# Altium footprint library TC2XX&TC3XX_MotherBoard.PcbLib: 33 footprints (part 2 of 3)
Each footprint in its own frame and in the unit in brackets; x right, y up, seen from the top. Pads: shape width x height; smd on the part's side, far side on the other; paste and mask are expansions set on the pad; w line width, h text height; cw(c..) or ccw(c..) is an arc to the next point about the centre after c.
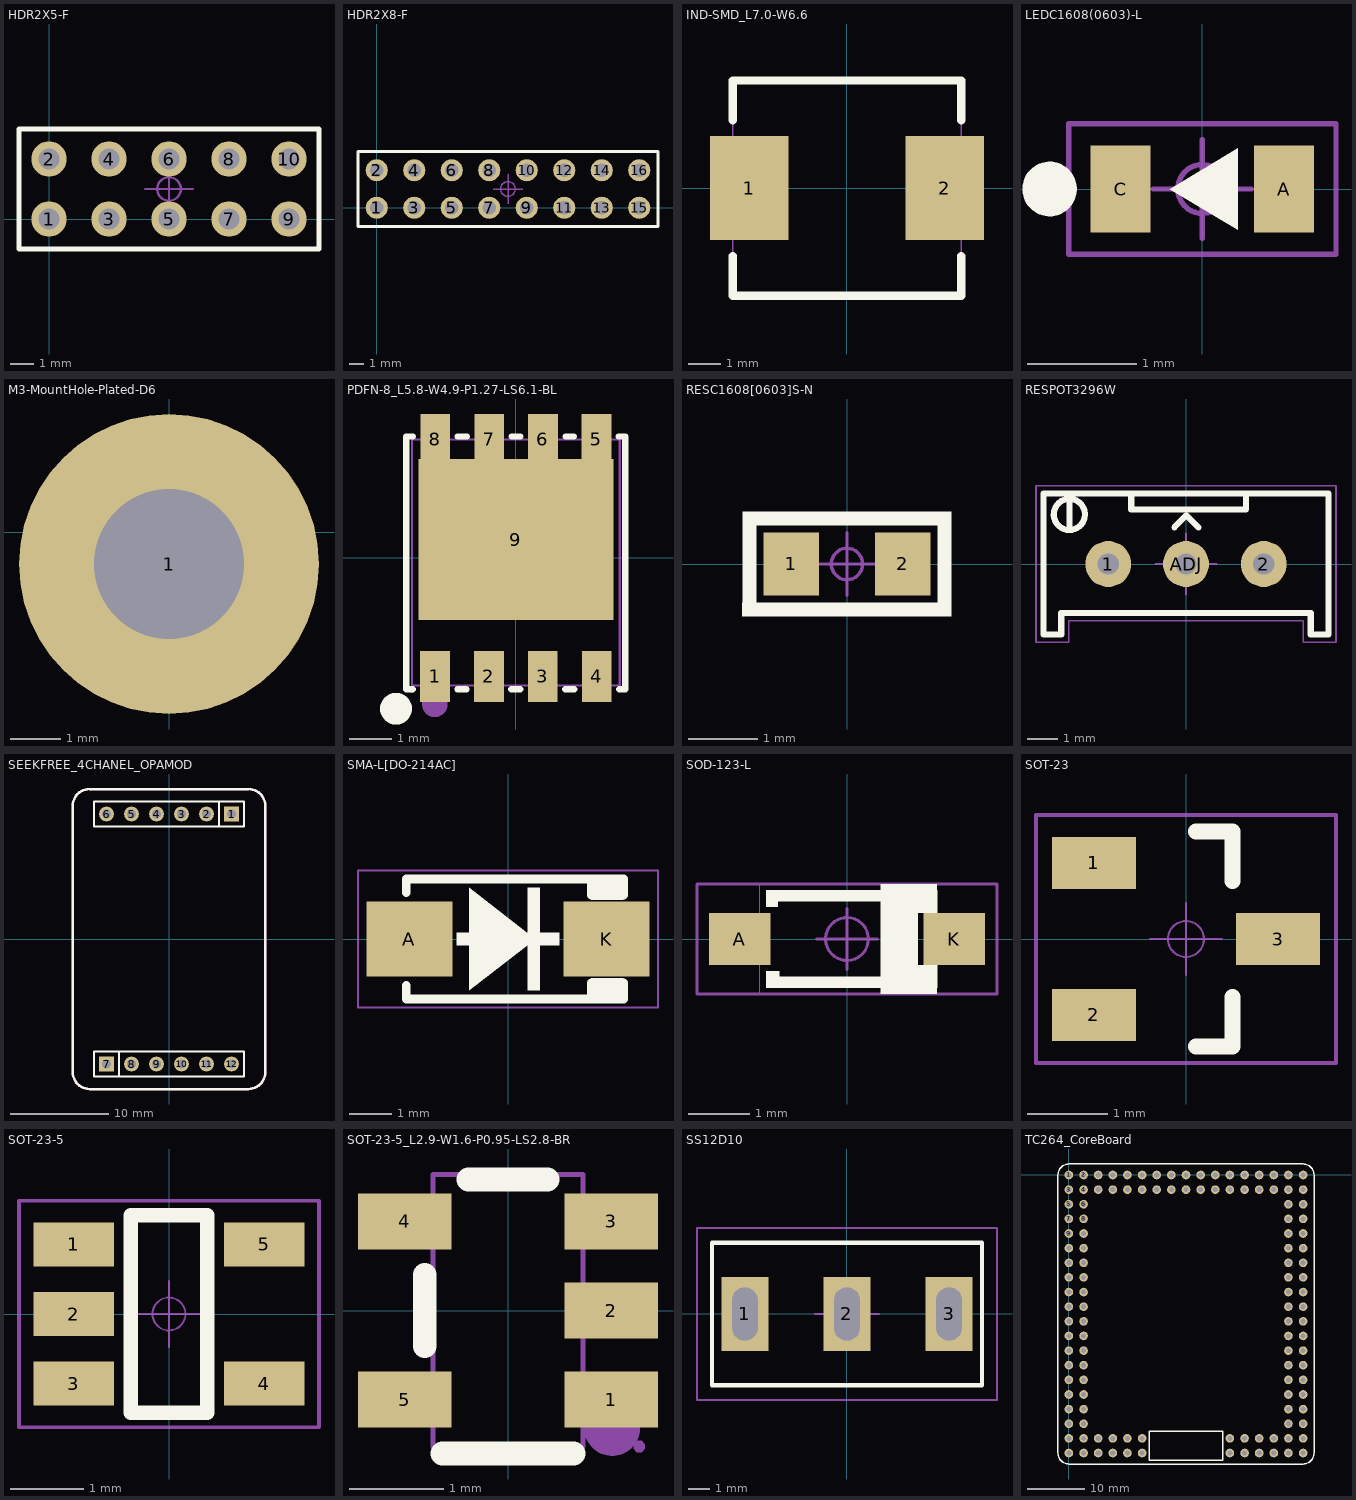
[diagram p1: the footprints below, top view; thin cyan lines are the x and y axes]

## HDR2X5-F [mm] "2x5pin, 2.54mm间距, 直插, 直排座"
pads (10):
  round 1.5 hole 0.9: 1(0,0) 2(0,2.54) 3(2.54,0) 4(2.54,2.54) 5(5.08,0) 6(5.08,2.54) 7(7.62,0) 8(7.62,2.54) 9(10.16,0) 10(10.16,2.54)
Top Overlay:
  lines w0.2: -1.27,-1.27 11.43,-1.27 11.43,3.81 -1.27,3.81 -1.27,-1.27
Mechanical 10:
  text ".Designator" at 7.332,1.496 h1
Mechanical 14:
  lines w0.1: -1.27,-1.27 11.43,-1.27 11.43,3.81 -1.27,3.81 -1.27,-1.27
Mechanical 16:
  circle w0.1: c5.08,1.27 r0.5
  lines w0.1: 4.08,1.27 6.08,1.27 ; 5.08,0.27 5.08,2.27
3D body: height 8.5, standoff -3, extent -1.52,-1.265 11.68,3.815

## HDR2X8-F [mm] "2x8pin, 2.54mm间距, 直插, 直排座"
pads (16):
  round 1.5 hole 0.9: 1(0,0) 2(0,2.54) 3(2.54,0) 4(2.54,2.54) 5(5.08,0) 6(5.08,2.54) 7(7.62,0) 8(7.62,2.54) 9(10.16,0) 10(10.16,2.54) 11(12.7,0) 12(12.7,2.54) 13(15.24,0) 14(15.24,2.54) 15(17.78,0) 16(17.78,2.54)
Top Overlay:
  lines w0.2: -1.27,-1.27 -1.27,3.81 19.05,3.81 19.05,-1.27 -1.27,-1.27
Mechanical 10:
  text ".Designator" at 6.638,1.044 h1
Mechanical 14:
  lines w0.1: -1.27,-1.27 -1.27,3.81 19.05,3.81 19.05,-1.27 -1.27,-1.27
Mechanical 16:
  circle w0.1: c8.89,1.27 r0.5
  lines w0.1: 7.89,1.27 9.89,1.27 ; 8.89,0.27 8.89,2.27
3D body: height 8.5, standoff -3.05, extent -1.52,-1.27 19.3,3.81

## IND-SMD_L7.0-W6.6 [mm]
height 0.5
pads (2):
  rect 2.4x3.2 smd: 1(-3,0) 2(3,0)
Top Overlay:
  lines w0.254: -3.5,-2.081 -3.5,-3.3 -3.49,-3.3 3.5,-3.3 3.5,-2.081 ; -3.5,2.081 -3.5,3.3 3.48,3.3 3.5,3.28 ; 3.5,2.081 3.5,3.3
Mechanical 15:
  region: -1.9,-1.5 -3.5,-1.5 -3.5,1.5 -1.9,1.5
  region: 1.9,1.5 3.5,1.5 3.5,-1.5 1.9,-1.5
  region: -3.44,-3.3 -3.441,-3.275 -3.476,-3.241 -3.524,-3.241 -3.559,-3.275 -3.56,-3.3 -3.559,-3.324 -3.525,-3.359 -3.476,-3.359 -3.441,-3.324 -3.44,-3.3
  lines w0.051: -3.5,-3.3 3.5,-3.3 3.5,3.3 -3.5,3.3 -3.5,-3.3

## LEDC1608(0603)-L [mm] "LED,Chip;1.60mm L X 0.80mm W X 0.80mm H"
height 0.8
pads (2):
  rect 0.55x0.8 smd: A(0.75,0) C(-0.75,0)
Top Overlay:
  circle w0.25: c-1.4,0 r0.125
  region: -0.3,0 0.325,0.375 0.325,-0.375
Mechanical 14:
  lines w0.05: -1.225,-0.6 1.225,-0.6 1.225,0.6 -1.225,0.6 -1.225,-0.6
Mechanical 16:
  circle w0.05: c0,0 r0.225
  lines w0.05: -0.45,0 0.45,0 ; 0,-0.45 0,0.45
3D body: height 0.64, standoff 0, extent -0.559,-0.4 0.559,0.4
3D body: height 0.64, standoff 0, extent -0.8,-0.4 0.8,0.4

## M3-MountHole-Plated-D6 [mm] "M3-MountHole 外径6mm"
height 0.5
pads (1):
  round 6 hole 3 mask+0.102: 1(0,-0.635)

## PDFN-8_L5.8-W4.9-P1.27-LS6.1-BL [mm]
pads (9):
  rect 0.7x1.2 smd paste-100 mask+0.05: 1(-1.905,-2.792) 2(-0.635,-2.792) 3(0.635,-2.792) 4(1.905,-2.792) 5(1.9,2.792) 6(0.64,2.792) 7(-0.63,2.792) 8(-1.9,2.792)
  rect 4.6x3.8 smd paste-100 mask+0.05: 9(0,0.433)
Top Overlay:
  lines w0.15: -2.58,2.863 -2.58,-3.097 -2.434,-3.097 ; -2.57,2.863 -2.429,2.863 ; -1.376,-3.097 -1.164,-3.097 ; -1.371,2.863 -1.159,2.863 ; -0.106,-3.097 0.106,-3.097 ; -0.101,2.863 0.111,2.863 ; 1.164,-3.097 1.376,-3.097 ; 1.169,2.863 1.371,2.863 ; 2.429,2.863 2.58,2.863 2.58,2.833 2.58,-3.097 2.434,-3.097
  lines w0.5: -2.95,-3.557 ccw(c-2.826,-3.556) -2.95,-3.555
Top Paste:
  region: 1.555,-2.192 2.255,-2.192 2.255,-3.392 1.555,-3.392
  region: 0.285,-2.192 0.985,-2.192 0.985,-3.392 0.285,-3.392
  region: -0.985,-2.192 -0.285,-2.192 -0.285,-3.392 -0.985,-3.392
  region: -2.255,-2.192 -1.555,-2.192 -1.555,-3.392 -2.255,-3.392
  region: -2.3,2.332 -2.3,-1.467 2.3,-1.467 2.3,2.332 2.25,2.332 2.25,3.393 1.55,3.393 1.55,2.332 0.99,2.332 0.99,3.392 0.291,3.392 0.291,2.332 -0.28,2.332 -0.28,3.392 -0.979,3.392 -0.979,2.332 -1.551,2.332 -1.551,3.392 -2.25,3.392 -2.25,2.333 -2.251,2.332
Mechanical 6:
  circle w0.3: c-1.91,-3.452 r0.15
Mechanical 15:
  region: 1.705,-2.475 2.105,-2.475 2.105,-3.11 1.705,-3.11
  region: 0.435,-2.475 0.835,-2.475 0.835,-3.11 0.435,-3.11
  region: -2.39,-3.11 -2.39,-3.085 -2.425,-3.05 -2.475,-3.05 -2.51,-3.085 -2.51,-3.11 -2.51,-3.135 -2.475,-3.17 -2.425,-3.17 -2.39,-3.135 -2.39,-3.11
  region: -0.835,-2.475 -0.435,-2.475 -0.435,-3.11 -0.835,-3.11
  region: 2.005,-1.183 -2.005,-1.183 -2.005,2.292 2.005,2.292
  region: 1.7,2.939 2.1,2.939 2.1,2.29 1.7,2.29
  region: -2.105,-2.475 -1.705,-2.475 -1.705,-3.11 -2.105,-3.11
  region: 0.44,2.939 0.84,2.939 0.84,2.29 0.44,2.29
  region: -0.83,2.939 -0.43,2.939 -0.43,2.29 -0.83,2.29
  region: -2.1,2.939 -1.7,2.939 -1.7,2.29 -2.1,2.29
  lines w0.051: -2.45,-3.007 2.45,-3.007 2.45,2.793 -2.45,2.793 -2.45,-3.007

## RESC1608[0603]S-N [mm] "0603贴片电阻 有丝印 2脚 1.60x0.80mm IPC中密度"
height 0.6
pads (2):
  rect 0.8x0.9 smd: 1(-0.8,0) 2(0.8,0)
Top Overlay:
  region: 1.5,-0.75 1.5,0.75 1.3,0.75 1.3,-0.75
  region: -1.5,0.75 -1.5,-0.75 -1.3,-0.75 -1.3,0.75
  rectangle: -1.5,0.55 1.5,0.75
  rectangle: -1.502,-0.75 1.498,-0.55
Mechanical 10:
  text ".Designator" at -2.252,-0.226 h1
Mechanical 14:
  rectangle: -1.45,-0.7 -1.4,0.7
  region: 1.45,0.65 1.45,0.7 -1.45,0.7 -1.45,0.65
  region: 1.45,0.7 1.4,0.7 1.4,-0.7 1.45,-0.7
  region: -1.45,-0.65 -1.45,-0.7 1.45,-0.7 1.45,-0.65
Mechanical 16:
  circle w0.05: c0,0 r0.225
  lines w0.05: -0.45,0 0.45,0 ; 0,-0.45 0,0.45
3D body: height 0.45, standoff 0, extent -0.8,-0.4 0.8,0.4

## RESPOT3296W [mm] "3296W 精密可调电阻 顶调"
height 0.5
pads (3):
  round 1.5 hole 0.7: 1(-2.54,0) 2(2.54,0) ADJ(0,0)
Top Overlay:
  lines w0.2: -3.8,1.125 -3.8,2.125 ; -3.302,1.651 ccw(c-3.81,1.618) -3.301,1.608 ; -1.79,2.286 -1.79,1.778 1.96,1.778 1.96,2.286 ; -0.381,1.194 0.013,1.587 0.406,1.194 ; -4.65,-2.3 -4.65,2.3 4.65,2.3 4.65,-2.3 4.075,-2.3 4.075,-1.602 -4.075,-1.602 -4.075,-2.3 -4.65,-2.3
Mechanical 10:
  text ".Designator" at 2.162,0.126 h1
Mechanical 14:
  lines w0.05: -4.9,-2.55 -4.9,2.55 4.9,2.55 4.9,-2.55 3.825,-2.55 3.825,-1.85 2.8,-1.85 -3.16,-1.85 -3.825,-1.85 -3.825,-2.55 -4.9,-2.55
Mechanical 16:
  circle w0.05: c0,0 r0.5
  lines w0.05: -1,0 1,0 ; 0,-1 0,1
3D body: height 3.1, standoff -11.9, extent -4.75,-2.4 4.75,2.4

## SEEKFREE_4CHANEL_OPAMOD [mm]
pads (12):
  rect 1.5x1.5 hole 0.9: 1(6.35,12.7) 7(-6.35,-12.7)
  round 1.5 hole 0.9: 2(3.81,12.7) 3(1.27,12.7) 4(-1.27,12.7) 5(-3.81,12.7) 6(-6.35,12.7) 8(-3.81,-12.7) 9(-1.27,-12.7) 10(1.27,-12.7) 11(3.81,-12.7) 12(6.35,-12.7)
Top Overlay:
  lines w0.2: -5.1,-13.95 -5.1,-11.45 ; 5.1,11.45 5.1,13.95 ; -7.62,-13.97 -7.62,-11.43 7.62,-11.43 7.62,-13.97 -7.62,-13.97 ; -7.62,11.43 -7.62,13.97 7.62,13.97 7.62,11.43 -7.62,11.43
Top Overlay keep-out:
  lines w0.254: -9.779,-13.524 ccw(c-8.063,-13.524) -8.063,-15.24 8.063,-15.24 ccw(c8.063,-13.524) 9.779,-13.524 9.779,13.524 ccw(c8.063,13.524) 8.063,15.24 -8.063,15.24 ccw(c-8.063,13.524) -9.779,13.524 -9.779,-13.524
Mechanical 10:
  text ".Designator" at -2.252,12.474 h1
3D body: height 8.5, standoff -3.2, extent -7.747,-13.975 7.743,-11.475
3D body: height 8.54, standoff -3, extent -7.62,-13.97 7.62,-11.43
3D body: height 8.54, standoff -3, extent -7.62,11.43 7.62,13.97
3D body: height 8.5, standoff -3.2, extent -7.743,11.475 7.747,13.975

## SMA-L[DO-214AC] [mm] "SMA 二极管 贴片 IPC高密度"
height 2.31
pads (2):
  rect 2x1.75 smd: A(-2.3,0) K(2.3,0)
Top Overlay:
  rectangle: -1.2,-0.149 1.2,0.151
  rectangle: 1.941,0.914 2.7,1.395
  rectangle: 0.451,-1.2 0.751,1.2
  rectangle: 1.941,-1.4 2.7,-0.914
  region: -0.902,1.2 -0.902,-1.2 0.635,0
  lines w0.2: -2.375,-1.075 -2.375,-1.4 2.7,-1.4 2.7,-1.016 ; -2.375,1.075 -2.375,1.4 2.7,1.4 2.7,1.016 ; 1.941,-1.395 1.941,-1.016 ; 1.941,1.016 1.941,1.395
Mechanical 10:
  text ".Designator" at -2.252,-0.226 h1
Mechanical 14:
  lines w0.05: -3.5,-1.6 -3.5,1.6 3.5,1.6 3.5,-1.6 -3.5,-1.6
Mechanical 16:
  circle w0.05: c0,0 r0.225
  lines w0.05: -0.45,0 0.45,0 ; 0,-0.45 0,0.45
3D body: height 2.3, standoff 0, extent -2.905,-1.46 2.905,1.46

## SOD-123-L [mm] "SOD Diode;2.70mm W X 1.60mm L X 1.35mm H body"
height 1.35
pads (2):
  rect 1x0.85 smd: A(-1.75,0) K(1.75,0)
Top Overlay:
  rectangle: 0.548,0.697 1.473,0.9
  rectangle: 1.15,0.425 1.475,0.8
  rectangle: 1.15,-0.8 1.475,-0.425
  rectangle: 0.548,-0.9 1.473,-0.697
  rectangle: -1.143,0.612 0.584,0.8
  rectangle: 0.55,-0.801 1.159,0.799
  region: -1.125,0.8 -1.325,0.8 -1.325,0.525 -1.125,0.525
  rectangle: -1.143,-0.8 0.584,-0.612
  region: -1.1,-0.525 -1.325,-0.525 -1.325,-0.8 -1.1,-0.8
Mechanical 2:
  circle w0.05: c0,0 r0.35
  lines w0.001: -1.425,-0.9 1.425,-0.9 1.425,0.9 -1.425,0.9 -1.425,-0.9
  lines w0.05: -0.5,0 0.5,0 ; 0,-0.5 0,0.5 ; -2.45,-0.9 2.45,-0.9 2.45,0.9 -2.45,0.9 -2.45,-0.9
3D body: height 1.2, standoff 0, extent -1.85,-0.8 1.85,0.8

## SOT-23 [mm] "SOT23, 3-Leads, Body 2.90x2.40mm, Pitch 0.95mm, IPC Medium Density"
height 1.1
pads (3):
  rect 1.05x0.65 smd: 1(-1.15,0.95) 2(-1.15,-0.95) 3(1.15,0)
Top Overlay:
  lines w0.2: 0.127,-1.346 0.584,-1.346 0.584,-0.725 ; 0.127,1.346 0.584,1.346 0.584,0.725
Mechanical 10:
  text ".Designator" at -2.252,-0.226 h1
Mechanical 14:
  lines w0.05: -1.875,-1.55 -1.875,1.55 1.875,1.55 1.875,-1.55 -1.875,-1.55
Mechanical 16:
  circle w0.025: c0,0 r0.225
  lines w0.025: -0.45,0 0.45,0 ; 0,-0.45 0,0.45
3D body: height 1.2, standoff 0, extent -1.4,-1.45 1.4,1.45

## SOT-23-5 [mm] "SOT23, 5-Leads, Body 2.92x2.79mm, Pitch 0.95mm, IPC Medium Density"
height 1.42
pads (5):
  rect 1.1x0.6 smd: 1(-1.3,0.95) 2(-1.3,0) 3(-1.3,-0.95) 4(1.3,-0.95) 5(1.3,0.95)
Top Overlay:
  lines w0.2: -0.525,-1.35 -0.525,1.35 0.525,1.35 0.525,-1.35 -0.525,-1.35
Mechanical 10:
  text ".Designator" at -2.252,-0.226 h1
Mechanical 14:
  lines w0.05: -2.05,-1.55 -2.05,1.55 2.05,1.55 2.05,-1.55 -2.05,-1.55
Mechanical 16:
  circle w0.025: c0,0 r0.225
  lines w0.025: -0.45,0 0.45,0 ; 0,-0.45 0,0.45
3D body: height 1.08, standoff -0.01, extent -1.423,-1.461 1.422,1.46

## SOT-23-5_L2.9-W1.6-P0.95-LS2.8-BR [mm]
pads (5):
  rect 1x0.6 smd paste+0 mask+0.05: 1(1.1,-0.95) 2(1.1,0) 3(1.1,0.95) 4(-1.1,0.95) 5(-1.1,-0.95)
Top Overlay:
  lines w0.254: -0.889,-0.381 -0.889,0.381 ; -0.699,-1.524 0.698,-1.524 ; -0.422,1.397 0.422,1.397
Mechanical 6:
  circle w0.3: c1.11,-1.25 r0.15
Mechanical 15:
  region: 1.4,0.75 0.95,0.75 0.95,1.15 1.4,1.15
  region: 1.4,-0.2 0.95,-0.2 0.95,0.2 1.4,0.2
  region: 0.96,-0.2 0.79,-0.2 0.79,0.2 0.96,0.2
  region: 0.96,0.75 0.79,0.75 0.79,1.15 0.96,1.15
  region: 1.4,-1.15 0.95,-1.15 0.95,-0.75 1.4,-0.75
  region: 1.46,-1.45 1.46,-1.425 1.425,-1.39 1.375,-1.39 1.34,-1.425 1.34,-1.45 1.34,-1.475 1.375,-1.51 1.425,-1.51 1.46,-1.475 1.46,-1.45
  region: 0.96,-1.15 0.79,-1.15 0.79,-0.75 0.96,-0.75
  region: -0.95,0.75 -1.4,0.75 -1.4,1.15 -0.95,1.15
  region: -0.79,0.75 -0.96,0.75 -0.96,1.15 -0.79,1.15
  region: -0.79,-1.15 -0.96,-1.15 -0.96,-0.75 -0.79,-0.75
  region: -0.95,-1.15 -1.4,-1.15 -1.4,-0.75 -0.95,-0.75
  lines w0.051: -0.8,-1.45 -0.8,1.45 0.8,1.45 0.8,-1.45 -0.8,-1.45

## SS12D10 [mm] "拨动开关，直脚，脚距4.8"
height 1.6
pads (3):
  rect 2.2x3.5 hole 1.2 slot 2.5 at 90 deg mask+0.07: 1(-4.8,0) 2(0,0) 3(4.8,0)
Top Overlay:
  lines w0.2: -6.35,-3.35 6.35,-3.35 6.35,3.35 -6.35,3.35 -6.35,-3.3
Mechanical 2:
  circle w0.1: c0,0 r0.813
  lines w0.1: -1.5,0 1.5,0 ; 0,-1.5 0,1.5 ; -7.05,-4.05 -7.05,4.05 7.05,4.05 7.05,-4.05 -7.05,-4.05
3D body: height 12.5, standoff -5.4, extent -6.4,-3.3 6.35,3.8

## TC264_CoreBoard [mm] "逐飞科技TC264核心板"
pads (122):
  round 1.5 hole 0.9: 1(0,0) 2(2.54,0) 3(0,-2.54) 4(2.54,-2.54) 5(0,-5.08) 6(2.54,-5.08) 7(0,-7.62) 8(2.54,-7.62) 9(0,-10.16) 10(2.54,-10.16) 11(0,-12.7) 12(2.54,-12.7) 13(0,-15.24) 14(2.54,-15.24) 15(0,-17.78) 16(2.54,-17.78) 17(0,-20.32) 18(2.54,-20.32) 19(0,-22.86) 20(2.54,-22.86) 21(0,-25.4) 22(2.54,-25.4) 23(0,-27.94) 24(2.54,-27.94) 25(0,-30.48) 26(2.54,-30.48) 27(0,-33.02) 28(2.54,-33.02) 29(0,-35.56) 30(2.54,-35.56) 31(0,-38.1) 32(2.54,-38.1) 33(0,-40.64) 34(2.54,-40.64) 35(0,-43.18) 36(2.54,-43.18) 37(0,-45.72) 38(2.54,-45.72) 39(0,-48.26) 40(2.54,-48.26) 41(5.08,-48.26) 42(5.08,-45.72) 43(7.62,-48.26) 44(7.62,-45.72) 45(10.16,-48.26) 46(10.16,-45.72) 47(12.7,-48.26) 48(12.7,-45.72) 49(27.94,-45.72) 50(27.94,-48.26) 51(30.48,-45.72) 52(30.48,-48.26) 53(33.02,-45.72) 54(33.02,-48.26) 55(35.56,-45.72) 56(35.56,-48.26) 57(38.1,-48.26) 58(40.64,-48.26) 59(38.1,-45.72) 60(40.64,-45.72) 61(38.1,-43.18) 62(40.64,-43.18) 63(38.1,-40.64) 64(40.64,-40.64) 65(38.1,-38.1) 66(40.64,-38.1) 67(38.1,-35.56) 68(40.64,-35.56) 69(38.1,-33.02) 70(40.64,-33.02) 71(38.1,-30.48) 72(40.64,-30.48) 73(38.1,-27.94) 74(40.64,-27.94) 75(38.1,-25.4) 76(40.64,-25.4) 77(38.1,-22.86) 78(40.64,-22.86) 79(38.1,-20.32) 80(40.64,-20.32) 81(38.1,-17.78) 82(40.64,-17.78) 83(38.1,-15.24) 84(40.64,-15.24) 85(38.1,-12.7) 86(40.64,-12.7) 87(38.1,-10.16) 88(40.64,-10.16) 89(38.1,-7.62) 90(40.64,-7.62) 91(38.1,-5.08) 92(40.64,-5.08) 93(38.1,-2.54) 94(40.64,-2.54) 95(38.1,0) 96(40.64,0) 97(35.56,-2.54) 98(35.56,0) 99(33.02,-2.54) 100(33.02,0) 101(30.48,-2.54) 102(30.48,0) 103(27.94,-2.54) 104(27.94,0) 105(25.4,-2.54) 106(25.4,0) 107(22.86,-2.54) 108(22.86,0) 109(20.32,-2.54) 110(20.32,0) 111(17.78,-2.54) 112(17.78,0) 113(15.24,-2.54) 114(15.24,0) 115(12.7,-2.54) 116(12.7,0) 117(10.16,-2.54) 118(10.16,0) 119(7.62,-2.54) 120(7.62,0) 121(5.08,-2.54) 122(5.08,0)
Top Overlay:
  lines w0.254: -1.905,-48.26 ccw(c0,-48.26) 0,-50.165 40.64,-50.165 ccw(c40.64,-48.26) 42.545,-48.26 42.545,0 ccw(c40.64,0) 40.64,1.905 0,1.905 ccw(c0,0) -1.905,0 -1.905,-48.26 ; 13.97,-49.53 26.67,-49.53 26.67,-44.45 13.97,-44.45 13.97,-49.53